# EAGLE library part TPS54334 (library TI)
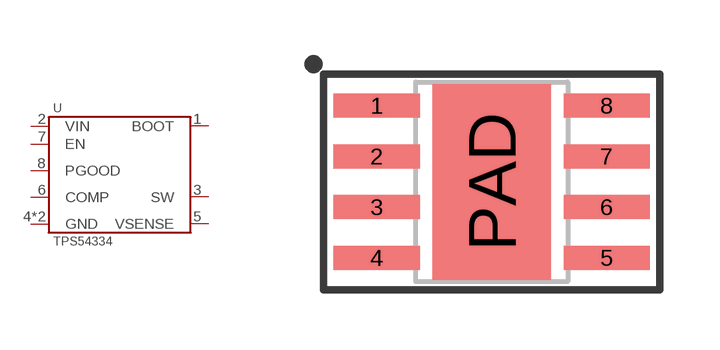
[diagram p34: symbol with the pads of HSOIC-8; footprint HSOIC-8]

Designator prefix U

## TPS54334DDAR  [HSOIC-8]
1  BOOT
2  VIN
3  SW
4  GND
5  VSENSE
6  COMP
7  EN
8  PGOOD
PAD  GND

## Footprint HSOIC-8 (pad centres in mm)
smd 2.15 x 0.6: 1 -2.875,1.905; 2 -2.875,0.635; 3 -2.875,-0.635; 4 -2.875,-1.905; 5 2.875,-1.905; 6 2.875,-0.635; 7 2.875,0.635; 8 2.875,1.905
smd 2.95 x 4.9: PAD 0,0